# EAGLE library part ARDUINO_PRO_MINI (library arduino_proMini)
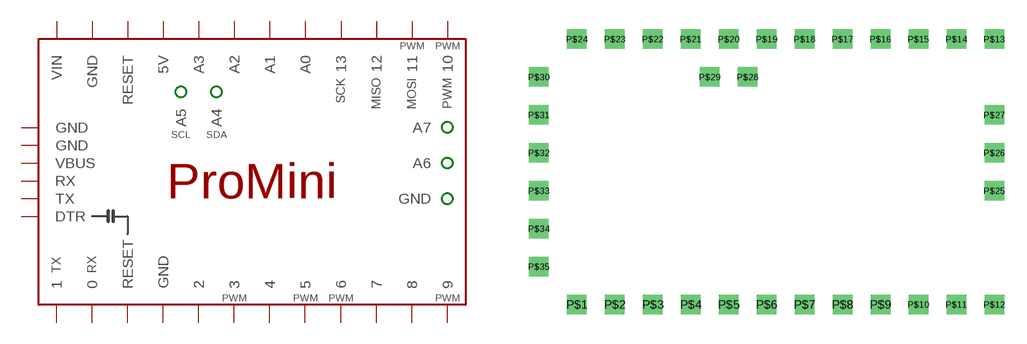
[diagram p0: symbol with the pads of ARDUINO_PRO_MINI; footprint ARDUINO_PRO_MINI]

Designator prefix -

## ARDUINO_PRO_MINI  [ARDUINO_PRO_MINI]
P$1  1
P$2  0
P$3  RESET
P$4  GND  sup
P$5  2
P$6  3
P$7  4
P$8  5
P$9  6
P$10  7
P$11  8
P$12  9
P$13  10
P$14  11
P$15  12
P$16  13
P$17  A0
P$18  A1
P$19  A2
P$20  A3
P$21  5V  pwr
P$22  RESET
P$23  GND  sup
P$24  VIN  pwr
P$25  GND  sup
P$26  A6
P$27  A7
P$28  A4
P$29  A5
P$30  GND  sup
P$31  GND  sup
P$32  VBUS
P$33  RX
P$34  TX
P$35  DTR  pwr

## Footprint ARDUINO_PRO_MINI (pad centres in mm)
drill 0.8 square: P$1 -11.43,-11.43; P$2 -8.89,-11.43; P$3 -6.35,-11.43; P$4 -3.81,-11.43; P$5 -1.27,-11.43; P$6 1.27,-11.43; P$7 3.81,-11.43; P$8 6.35,-11.43; P$9 8.89,-11.43; P$10 11.43,-11.43; P$11 13.97,-11.43; P$12 16.51,-11.43; P$13 16.51,6.35; P$14 13.97,6.35; P$15 11.43,6.35; P$16 8.89,6.35; P$17 6.35,6.35; P$18 3.81,6.35; P$19 1.27,6.35; P$20 -1.27,6.35; P$21 -3.81,6.35; P$22 -6.35,6.35; P$23 -8.89,6.35; P$24 -11.43,6.35; P$25 16.51,-3.81; P$26 16.51,-1.27; P$27 16.51,1.27; P$28 0,3.81; P$29 -2.54,3.81; P$30 -13.97,3.81; P$31 -13.97,1.27; P$32 -13.97,-1.27; P$33 -13.97,-3.81; P$34 -13.97,-6.35; P$35 -13.97,-8.89